# EAGLE library part SAWTEK_846* (library NewSDR)
Sawtek IF Saw Filter
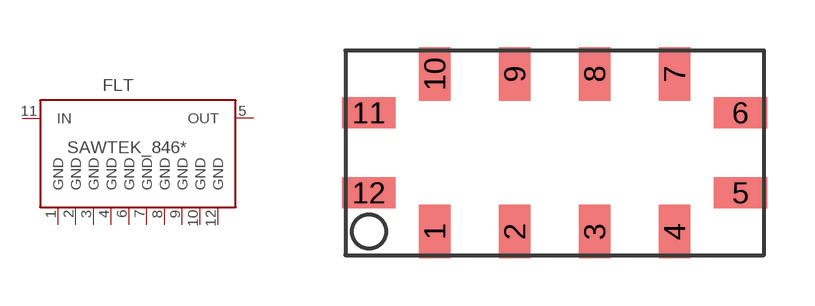
[diagram p118: symbol with the pads of SMP-53; footprint SMP-53]

Designator prefix FLT

## SAWTEK_846672 (CF_BW: 70 MHz, 24 MHz), SAWTEK_846923 (CF_BW: 140 MHz, 24 MHz)  [SMP-53]
1  GND  pwr
2  GND  pwr
3  GND  pwr
4  GND  pwr
5  OUT  out
6  GND  pwr
7  GND  pwr
8  GND  pwr
9  GND  pwr
10  GND  pwr
11  IN  in
12  GND  pwr

## Footprint SMP-53 (pad centres in mm)
Sawtek 13.30 x 6.50 x 1.75 mm SMD Saw Filter
smd 0.99 x 1.7: 1 -3.81,-2.5; 2 -1.27,-2.5; 3 1.27,-2.5; 4 3.81,-2.5; 7 3.81,2.5; 8 1.27,2.5; 9 -1.27,2.5; 10 -3.81,2.5
smd 1.7 x 0.99: 5 5.905,-1.27; 6 5.905,1.27; 11 -5.905,1.27; 12 -5.905,-1.27